# Altium schematic symbol library Inverter.SchLib: 28 symbols
Pins are listed as number, name and electrical type; pins without a type are passive.

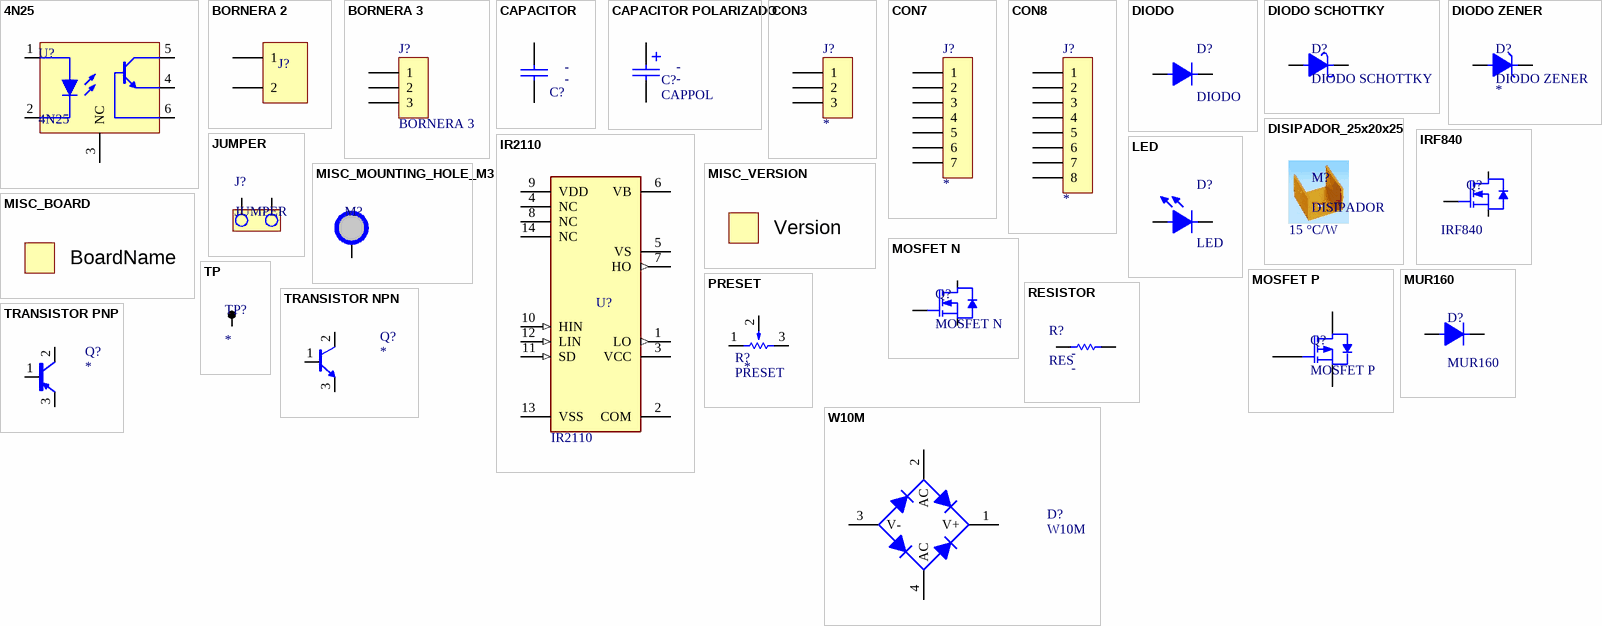
[diagram p0: symbols 4N25 to W10M]

## 4N25
designator U?
OPTOISOLATOR 5KV TRANS W/BASE 6DIP; Manufacturer: Vishay Semiconductor Opto Division; Manufacturer Part Number: 4N25
footprint DIP6
pins: 1 A, 2 K, 3 NC, 4 E, 5 C, 6 B

## BORNERA 2
designator J?  (value not drawn)
BORNERA 2 POLOS; Manufacturer Part Number: -; Manufacturer: -
footprint BORNERA2 (Bornera con Tornillos 5mm separación)
pins: 1, 2

## BORNERA 3
designator J?
footprint BORNERA3 (Bornera con Tornillos 5mm separación)
pins: 1, 2, 3

## CAPACITOR
designator C?, comment CAP  (value not drawn)
CAPACITOR; Manufacturer: -; Manufacturer Part Number: -; Voltage Rating: -; Value: -
footprint 0805 (Pasivo 0805)
footprint 1206 (Pasivo 1206)
footprint 0603 (Footprint not found)
footprint CAP200
footprint CAP100
footprint CAP600
footprint CAP300
pins: 1, 2

## CAPACITOR POLARIZADO
designator C?, comment CAPPOL
CAPACITOR POLARIZADO; Manufacturer Part Number: -; Manufacturer: -; Voltage Rating: -; Value: -
footprint CAP100RP
footprint CAP200RP
footprint CAP100RP2 (Footprint not found)
footprint CAP200RP2 (Body Diameter 12.5mm)
footprint CAP300RP
footprint CAP400RP
footprint CAP_8mm
pins: 1, 2
text: +

## CON3
designator J?
footprint SIP3
footprint SIP3 90
pins: 1, 2, 3

## CON7
designator J?
footprint SIP7
footprint SIP7 90
pins: 1, 2, 3, 4, 5, 6, 7

## CON8
designator J?
footprint SIP8
footprint SIP8 90
pins: 1, 2, 3, 4, 5, 6, 7, 8

## DIODO
designator D?
DIODO RECTIFICADOR; Manufacturer Part Number: *; Manufacturer: *
footprint SMAK
footprint 1206K
footprint DO41
footprint SMBK
footprint SMCK
pins: 1, 2

## DIODO SCHOTTKY
designator D?
Manufacturer Part Number: *; Manufacturer: *
footprint SOT23
footprint DO41
pins: 1, 2

## DIODO ZENER
designator D?
Manufacturer Part Number: *; Manufacturer: *; Voltage: *
footprint SOT23
footprint DO41
pins: 1, 2

## DISIPADOR_25x20x25
designator M?, comment DISIPADOR  Thermal Res.: 15 °C/W
footprint DISIPADOR_25x20x25

## IR2110
designator U?
High and Low Side Driver; Manufacturer: Infineon Technologies; PackageReference: PG-DIP-14-903; Manufacturer Order Number: IR2110
footprint IR2110 (DIP,7.62mm lead span,2.54mm pitch;14 pin,6.605mm W X 19.305mm L X 5.33mm H body)
pins: 1 LO (out) "Low side gate drive output", 2 COM (power) "Low side return", 3 VCC (power) "Low side supply", 4 NC, 5 VS (power) "High side floating supply return", 6 VB (power) "High side floating supply", 7 HO (out) "High side gate drive output", 8 NC, 9 VDD (power) "Logic Supply", 10 HIN (in) "Logic input for high side gate driver outputs (HO), in phase", 11 SD (in) "Logic input for shutdown", 12 LIN (in) "Logic input for low side gate driver outputs (LO), in phase", 13 VSS (power) "Logic ground", 14 NC

## IRF840
designator Q?
Manufacturer: Vishay; Value: IRF840; Manufacturer Part Number: IRF840
footprint TO-220 V
pins: 1 G, 2 D, 3 S

## JUMPER
designator J?
footprint 0805 (Pasivo 0805)
footprint JUMPER2
pins: 1, 2

## LED
designator D?
DIODO LED; Manufacturer Part Number: *; Manufacturer: *
footprint 0805 (Chip Resistor, 2-Leads, Body 0,8"x0,5" - 2,0x1,3mm, IPC High Density)
footprint LED3
footprint LED5
pins: 1, 2

## MISC_BOARD
designator B?, comment Name: BoardName  (hidden comment: Board Name)  (no BOM)
footprint MISC_BOARD

## MISC_MOUNTING_HOLE_M3
designator M?, comment Mounting Hole  (value not drawn)  (no BOM)
MOUNTING HOLE M2.5
footprint MISC_MOUNTING_HOLE_M3
pins: 1

## MISC_VERSION
designator V?, comment PCB Version  (value not drawn)  (no BOM)
Version: Version
footprint MISC_VERSION

## MOSFET N
designator Q?
footprint SOT23
footprint TO-220 V
pins: 1 G, 2 D, 3 S

## MOSFET P
designator Q?
footprint SOT23
footprint TO-220 V
pins: 1 G, 2 D, 3 S

## MUR160
designator D?
Manufacturer: *; Manufacturer Part Number: MUR160
footprint SOT23
footprint DO41
pins: 1, 2

## PRESET
designator R?
Manufacturer Part Number: *; Manufacturer: *; Value: *
footprint PRESET H
footprint PRESET V
pins: 1, 2, 3

## RESISTOR
designator R?, comment RES
RESISTOR; Manufacturer Part Number: -; Manufacturer: -; Power: -; Value: -
footprint 0805 (Chip Resistor, 2-Leads, Body 0,8"x0,5" - 2,0x1,3mm, IPC High Density)
footprint RES400
footprint RES100
footprint RES300
footprint 1206 (Pasivo 1206)
footprint RES500
footprint RES600
footprint RES1200
footprint RES_METAL_FILM_1/8W
footprint RES_METAL_FILM_2W
footprint RES_METAL_FILM_1W
pins: 1, 2

## TP
designator TP?
TESTPOINT
footprint TPSMD
footprint TPTH
pins: 1

## TRANSISTOR NPN
designator Q?
footprint SOT23
footprint TO92
footprint TO-220 H
footprint TO-220 V
footprint TO-220 H - DISIPADOR
footprint TO-126 V
footprint TO3
pins: 1 B, 2 C, 3 E

## TRANSISTOR PNP
designator Q?
footprint SOT23
footprint TO92
footprint TO-220 H
footprint TO-220 V
footprint TO-220 H - DISIPADOR
footprint TO-126 V
pins: 1 B, 2 C, 3 E

## W10M
designator D?
footprint PUENTE - W10M
pins: 1 V+, 2 AC, 3 V-, 4 AC